# Altium footprint library Microchip.PcbLib: 2 footprints
Each footprint in its own frame and in the unit in brackets; x right, y up, seen from the top. Pads: shape width x height; smd on the part's side, far side on the other; paste and mask are expansions set on the pad; w line width, h text height; cw(c..) or ccw(c..) is an arc to the next point about the centre after c.
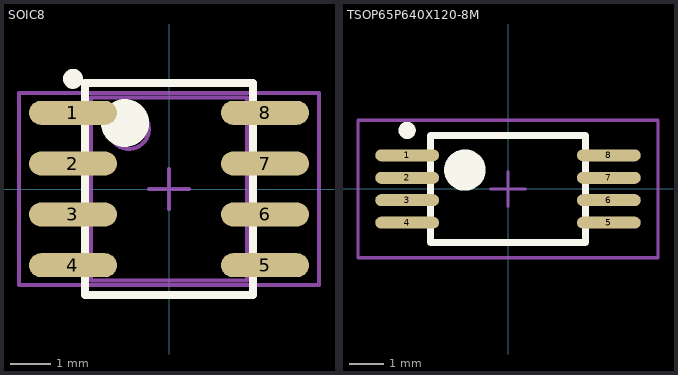
[diagram p0: the footprints below, top view; thin cyan lines are the x and y axes]

## SOIC8 [mm]
height 1.75
pads (8):
  oval 2.2x0.6 smd: 1(-2.4,1.905) 2(-2.4,0.635) 3(-2.4,-0.635) 4(-2.4,-1.905) 5(2.4,-1.905) 6(2.4,-0.635) 7(2.4,0.635) 8(2.4,1.905)
Top Overlay:
  circle w0.6: c-1.1,1.65 r0.3
  circle w0.25: c-2.4,2.755 r0.125
  lines w0.2: -2.1,-2.65 2.1,-2.65 2.1,2.65 -2.1,2.65 -2.1,-2.65
Mechanical 13:
  circle w0.1: c-1,1.5 r0.5
  lines w0.1: -1.95,-2.286 1.95,-2.286 1.95,2.286 -1.95,2.286 -1.95,-2.286
Mechanical 15:
  lines w0.1: -0.5,0 0.5,0 ; 0,-0.5 0,0.5 ; -3.75,-2.4 3.75,-2.4 3.75,2.4 -3.75,2.4 -3.75,-2.4
3D body: height 1.75, standoff 0.25, extent -1.905,-2.286 1.905,2.286

## TSOP65P640X120-8M [mm] "TSOP, 8-Leads, Body 3.0x4.5mm (max), Pitch 0.65mm, IPC Low Density"
height 1.2
pads (8):
  oval 1.85x0.35 smd: 1(-2.925,0.975) 2(-2.925,0.325) 3(-2.925,-0.325) 4(-2.925,-0.975) 5(2.925,-0.975) 6(2.925,-0.325) 7(2.925,0.325) 8(2.925,0.975)
Top Overlay:
  circle w0.6: c-1.25,0.55 r0.3
  circle w0.25: c-2.925,1.7 r0.125
  lines w0.2: -2.25,-1.55 2.25,-1.55 2.25,1.55 -2.25,1.55 -2.25,-1.55
Mechanical 13:
  circle w0.1: c-1.3,0.55 r0.5
  lines w0.1: -2.25,-1.5 2.25,-1.5 2.25,1.5 -2.25,1.5 -2.25,-1.5
Mechanical 15:
  lines w0.1: -0.5,0 0.5,0 ; 0,-0.5 0,0.5 ; -4.35,-2 4.35,-2 4.35,2 -4.35,2 -4.35,-2
3D body: height 1.2, standoff 0.15, extent -2.286,-1.143 2.159,1.143